# Altium footprint library tssop.PcbLib: 12 footprints
Each footprint in its own frame and in the unit in brackets; x right, y up, seen from the top. Pads: shape width x height; smd on the part's side, far side on the other; paste and mask are expansions set on the pad; w line width, h text height; cw(c..) or ccw(c..) is an arc to the next point about the centre after c.
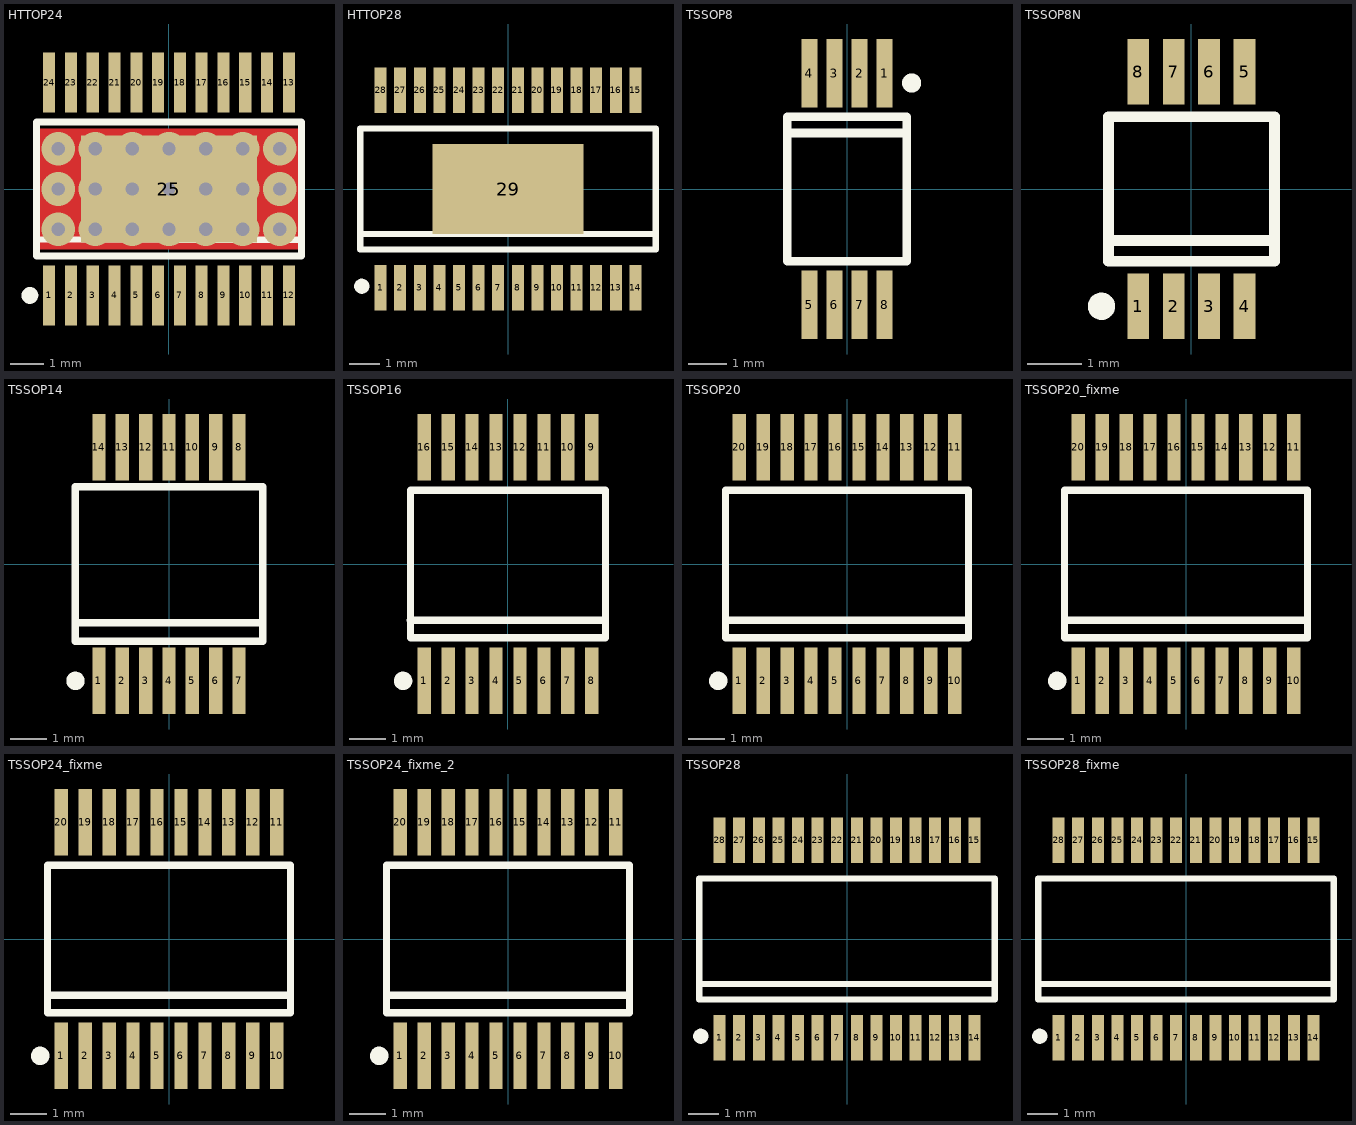
[diagram p0: the footprints below, top view; thin cyan lines are the x and y axes]

## HTTOP24 [mm] "PowerPAD TSSOP"
height 1.1
pads (25):
  rect 0.36x1.8 smd: 1(-3.575,-3.175) 2(-2.925,-3.175) 3(-2.275,-3.175) 4(-1.625,-3.175) 5(-0.975,-3.175) 6(-0.325,-3.175) 7(0.325,-3.175) 8(0.975,-3.175) 9(1.625,-3.175) 10(2.275,-3.175) 11(2.925,-3.175) 12(3.575,-3.175) 13(3.575,3.175) 14(2.925,3.175) 15(2.275,3.175) 16(1.625,3.175) 17(0.975,3.175) 18(0.325,3.175) 19(-0.325,3.175) 20(-0.975,3.175) 21(-1.625,3.175) 22(-2.275,3.175) 23(-2.925,3.175) 24(-3.575,3.175)
  rect 5.26x3.2 smd: 25(0,0)
via 0,0 diameter 1 hole 0.4
via -1.1,0 diameter 1 hole 0.4
via -2.2,0 diameter 1 hole 0.4
via -3.3,0 diameter 1 hole 0.4
via -3.3,1.2 diameter 1 hole 0.4
via -2.2,1.2 diameter 1 hole 0.4
via -1.1,1.2 diameter 1 hole 0.4
via 0,1.2 diameter 1 hole 0.4
via 1.1,1.2 diameter 1 hole 0.4
via 2.2,1.2 diameter 1 hole 0.4
via 3.3,1.2 diameter 1 hole 0.4
via 1.1,0 diameter 1 hole 0.4
via 2.2,0 diameter 1 hole 0.4
via 3.3,0 diameter 1 hole 0.4
via -3.3,-1.2 diameter 1 hole 0.4
via -2.2,-1.2 diameter 1 hole 0.4
via -1.1,-1.2 diameter 1 hole 0.4
via 0,-1.2 diameter 1 hole 0.4
via 1.1,-1.2 diameter 1 hole 0.4
via 2.2,-1.2 diameter 1 hole 0.4
via 3.3,-1.2 diameter 1 hole 0.4
Top Layer:
  rectangle: -3.9,-1.8 3.9,1.8
Top Overlay:
  circle w0.25: c-4.15,-3.175 r0.125
  lines w0.2: -3.95,-1.5 3.948,-1.524 ; -3.95,-2 -3.95,2 3.95,2 3.95,-2 -3.95,-2
3D body "User Library-User Library-TSSOP-24.step": height 1.2, standoff 0, extent -3.95,-3.275 3.95,3.275

## HTTOP28 [mm]
height 2
pads (29):
  rect 0.4x1.5 smd: 1(-4.225,-3.275) 2(-3.575,-3.275) 3(-2.925,-3.275) 4(-2.275,-3.275) 5(-1.625,-3.275) 6(-0.975,-3.275) 7(-0.325,-3.275) 8(0.325,-3.275) 9(0.975,-3.275) 10(1.625,-3.275) 11(2.275,-3.275) 12(2.925,-3.275) 13(3.575,-3.275) 14(4.225,-3.275) 15(4.225,3.275) 16(3.575,3.275) 17(2.925,3.275) 18(2.275,3.275) 19(1.625,3.275) 20(0.975,3.275) 21(0.325,3.275) 22(-0.325,3.275) 23(-0.975,3.275) 24(-1.625,3.275) 25(-2.275,3.275) 26(-2.925,3.275) 27(-3.575,3.275) 28(-4.225,3.275)
  rect 5x3 smd: 29(0,0)
Top Overlay:
  circle w0.25: c-4.85,-3.225 r0.125
  lines w0.2: -4.9,-1.5 4.9,-1.5 ; -4.9,-2 -4.9,2 4.9,2 4.9,-2 -4.9,-2
3D body "User Library-JEDEC MO-153 (TSSOP) (7).step": height 1.2, standoff 0, extent -4.85,-3.228 4.85,3.228

## TSSOP8 [mm] "JEDEC MO-153 AA (TSSOP-8)"
pads (8):
  rect 0.42x1.78 smd: 1(0.975,3) 2(0.325,3) 3(-0.325,3) 4(-0.975,3) 5(-0.975,-3) 6(-0.325,-3) 7(0.325,-3) 8(0.975,-3)
Top Overlay:
  circle w0.25: c1.675,2.75 r0.125
  lines w0.229: -1.55,1.45 1.55,1.45 ; -1.55,-1.875 1.55,-1.875 1.55,1.875 -1.55,1.875 -1.55,-1.875
3D body "User Library-JEDEC MO-153 (TSSOP).step": height 1.2, standoff 0, extent -1.5,-3.228 1.5,3.228

## TSSOP8N [mm]
pads (8):
  rect 0.4x1.2 smd: 1(-0.975,-2.15) 2(-0.325,-2.15) 3(0.325,-2.15) 4(0.975,-2.15) 5(0.975,2.15) 6(0.325,2.15) 7(-0.325,2.15) 8(-0.975,2.15)
Top Overlay:
  circle w0.25: c-1.649,-2.15 r0.125
  lines w0.2: -1.524,-0.941 1.524,-0.941 ; -1.524,-1.325 1.524,-1.325 1.524,1.325 -1.524,1.325 -1.524,-1.325
3D body "User Library-TSSOP8-1.step": height 1.1, standoff 0, extent -1.55,-2.05 1.55,2.05

## TSSOP14 [mm] "JEDEC MO-153 AB-1 (TSSOP-14)"
height 1.2
pads (14):
  rect 0.36x1.8 smd: 1(-1.905,-3.175) 2(-1.27,-3.175) 3(-0.635,-3.175) 4(0,-3.175) 5(0.635,-3.175) 6(1.27,-3.175) 7(1.905,-3.175) 8(1.905,3.175) 9(1.27,3.175) 10(0.635,3.175) 11(0,3.175) 12(-0.635,3.175) 13(-1.27,3.175) 14(-1.905,3.175)
Top Overlay:
  circle w0.25: c-2.54,-3.175 r0.125
  lines w0.2: -2.55,-1.6 2.55,-1.6 ; -2.55,-2.1 -2.55,2.1 2.55,2.1 2.55,-2.1 -2.55,-2.1
3D body "User Library-JEDEC MO-153 (TSSOP) (1).step": height 1.2, standoff 0, extent -2.5,-3.228 2.5,3.228

## TSSOP16 [mm] "JEDEC MO-153 AB (TSSOP-16)"
height 1.1
pads (16):
  rect 0.36x1.8 smd: 1(-2.275,-3.175) 2(-1.625,-3.175) 3(-0.975,-3.175) 4(-0.325,-3.175) 5(0.325,-3.175) 6(0.975,-3.175) 7(1.625,-3.175) 8(2.275,-3.175) 9(2.275,3.175) 10(1.625,3.175) 11(0.975,3.175) 12(0.325,3.175) 13(-0.325,3.175) 14(-0.975,3.175) 15(-1.625,3.175) 16(-2.275,3.175)
Top Overlay:
  circle w0.25: c-2.85,-3.175 r0.125
  lines w0.2: -2.652,-1.524 2.631,-1.524 ; -2.65,-2 2.65,-2 2.65,2 -2.65,2 -2.65,-2
3D body "User Library-JEDEC MO-153 (TSSOP) (2).step": height 1.2, standoff 0, extent -2.5,-3.228 2.5,3.228

## TSSOP20 [mm] "JEDEC MO-153 AC (TSSOP-20)"
height 1.1
pads (20):
  rect 0.36x1.8 smd: 1(-2.925,-3.175) 2(-2.275,-3.175) 3(-1.625,-3.175) 4(-0.975,-3.175) 5(-0.325,-3.175) 6(0.325,-3.175) 7(0.975,-3.175) 8(1.625,-3.175) 9(2.275,-3.175) 10(2.925,-3.175) 11(2.925,3.175) 12(2.275,3.175) 13(1.625,3.175) 14(0.975,3.175) 15(0.325,3.175) 16(-0.325,3.175) 17(-0.975,3.175) 18(-1.625,3.175) 19(-2.275,3.175) 20(-2.925,3.175)
Top Overlay:
  circle w0.25: c-3.5,-3.175 r0.125
  lines w0.2: -3.302,-1.524 3.298,-1.524 ; -3.3,-2 3.3,-2 3.3,2 -3.3,2 -3.3,-2
3D body "User Library-JEDEC MO-153 (TSSOP) (3).step": height 1.2, standoff 0, extent -3.25,-3.228 3.25,3.228

## TSSOP20_fixme [mm] "JEDEC MO-153 BA (TSSOP-20)"
height 1.1
pads (20):
  rect 0.36x1.8 smd: 1(-2.925,-3.175) 2(-2.275,-3.175) 3(-1.625,-3.175) 4(-0.975,-3.175) 5(-0.325,-3.175) 6(0.325,-3.175) 7(0.975,-3.175) 8(1.625,-3.175) 9(2.275,-3.175) 10(2.925,-3.175) 11(2.925,3.175) 12(2.275,3.175) 13(1.625,3.175) 14(0.975,3.175) 15(0.325,3.175) 16(-0.325,3.175) 17(-0.975,3.175) 18(-1.625,3.175) 19(-2.275,3.175) 20(-2.925,3.175)
Top Overlay:
  circle w0.25: c-3.5,-3.175 r0.125
  lines w0.2: -3.302,-1.524 3.298,-1.524 ; -3.3,-2 -3.3,2 3.3,2 3.3,-2 -3.3,-2
3D body "User Library-JEDEC MO-153 (TSSOP) (4).step": height 1.2, standoff 0, extent -2.5,-3.228 2.5,3.228

## TSSOP24_fixme [mm] "JEDEC MO-153 AD (TSSOP-24)"
height 1.1
pads (20):
  rect 0.36x1.8 smd: 1(-2.925,-3.175) 2(-2.275,-3.175) 3(-1.625,-3.175) 4(-0.975,-3.175) 5(-0.325,-3.175) 6(0.325,-3.175) 7(0.975,-3.175) 8(1.625,-3.175) 9(2.275,-3.175) 10(2.925,-3.175) 11(2.925,3.175) 12(2.275,3.175) 13(1.625,3.175) 14(0.975,3.175) 15(0.325,3.175) 16(-0.325,3.175) 17(-0.975,3.175) 18(-1.625,3.175) 19(-2.275,3.175) 20(-2.925,3.175)
Top Overlay:
  circle w0.25: c-3.5,-3.175 r0.125
  lines w0.2: -3.302,-1.524 3.298,-1.524 ; -3.3,-2 3.3,-2 3.3,2 -3.3,2 -3.3,-2
3D body "User Library-JEDEC MO-153 (TSSOP) (5).step": height 1.2, standoff 0, extent -3.9,-3.228 3.9,3.228

## TSSOP24_fixme_2 [mm] "JEDEC MO-153 BB (TSSOP-24)"
height 1.1
pads (20):
  rect 0.36x1.8 smd: 1(-2.925,-3.175) 2(-2.275,-3.175) 3(-1.625,-3.175) 4(-0.975,-3.175) 5(-0.325,-3.175) 6(0.325,-3.175) 7(0.975,-3.175) 8(1.625,-3.175) 9(2.275,-3.175) 10(2.925,-3.175) 11(2.925,3.175) 12(2.275,3.175) 13(1.625,3.175) 14(0.975,3.175) 15(0.325,3.175) 16(-0.325,3.175) 17(-0.975,3.175) 18(-1.625,3.175) 19(-2.275,3.175) 20(-2.925,3.175)
Top Overlay:
  circle w0.25: c-3.5,-3.175 r0.125
  lines w0.2: -3.302,-1.524 3.298,-1.524 ; -3.3,-2 3.3,-2 3.3,2 -3.3,2 -3.3,-2
3D body "User Library-JEDEC MO-153 (TSSOP) (6).step": height 1.2, standoff 0, extent -3.25,-3.228 3.25,3.228

## TSSOP28 [mm] "JEDEC MO-153 AE (TSSOP-28)"
height 2
pads (28):
  rect 0.4x1.5 smd: 1(-4.225,-3.275) 2(-3.575,-3.275) 3(-2.925,-3.275) 4(-2.275,-3.275) 5(-1.625,-3.275) 6(-0.975,-3.275) 7(-0.325,-3.275) 8(0.325,-3.275) 9(0.975,-3.275) 10(1.625,-3.275) 11(2.275,-3.275) 12(2.925,-3.275) 13(3.575,-3.275) 14(4.225,-3.275) 15(4.225,3.275) 16(3.575,3.275) 17(2.925,3.275) 18(2.275,3.275) 19(1.625,3.275) 20(0.975,3.275) 21(0.325,3.275) 22(-0.325,3.275) 23(-0.975,3.275) 24(-1.625,3.275) 25(-2.275,3.275) 26(-2.925,3.275) 27(-3.575,3.275) 28(-4.225,3.275)
Top Overlay:
  circle w0.25: c-4.85,-3.225 r0.125
  lines w0.2: -4.9,-1.5 4.9,-1.5 ; -4.9,-2 -4.9,2 4.9,2 4.9,-2 -4.9,-2
3D body "User Library-JEDEC MO-153 (TSSOP) (7).step": height 1.2, standoff 0, extent -4.85,-3.228 4.85,3.228

## TSSOP28_fixme [mm] "JEDEC MO-153 BC (TSSOP-28)"
height 2
pads (28):
  rect 0.4x1.5 smd: 1(-4.225,-3.275) 2(-3.575,-3.275) 3(-2.925,-3.275) 4(-2.275,-3.275) 5(-1.625,-3.275) 6(-0.975,-3.275) 7(-0.325,-3.275) 8(0.325,-3.275) 9(0.975,-3.275) 10(1.625,-3.275) 11(2.275,-3.275) 12(2.925,-3.275) 13(3.575,-3.275) 14(4.225,-3.275) 15(4.225,3.275) 16(3.575,3.275) 17(2.925,3.275) 18(2.275,3.275) 19(1.625,3.275) 20(0.975,3.275) 21(0.325,3.275) 22(-0.325,3.275) 23(-0.975,3.275) 24(-1.625,3.275) 25(-2.275,3.275) 26(-2.925,3.275) 27(-3.575,3.275) 28(-4.225,3.275)
Top Overlay:
  circle w0.25: c-4.85,-3.225 r0.125
  lines w0.2: -4.9,-1.5 4.9,-1.5 ; -4.9,-2 -4.9,2 4.9,2 4.9,-2 -4.9,-2
3D body "User Library-JEDEC MO-153 (TSSOP) (8).step": height 1.2, standoff 0, extent -3.9,-3.228 3.9,3.228